# EAGLE library part 3PDT (library mb_switches)
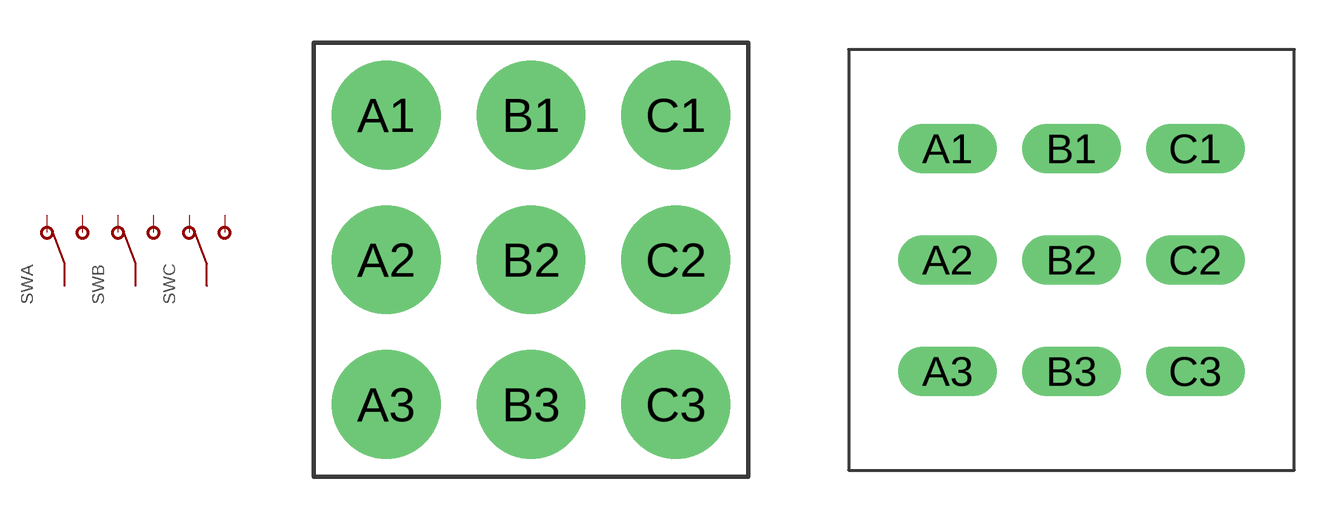
[diagram p1: symbol with the pads of 3PDT; footprints 3PDT, CHINABLUE]

Designator prefix SW; gates A=SPDT B=SPDT C=SPDT

## 3PDT  [3PDT]
A1  A:1  pas
A2  A:2  pas
A3  A:3  pas
B1  B:1  pas
B2  B:2  pas
B3  B:3  pas
C1  C:1  pas
C2  C:2  pas
C3  C:3  pas

## 3PDTBLUE  [CHINABLUE]
Pads as for 3PDT

## Footprint 3PDT (pad centres in mm)
drill 2.8 pad 2: A1 -5.08,5.08; A2 -5.08,0; A3 -5.08,-5.08; B1 0,5.08; B2 0,0; B3 0,-5.08; C1 5.08,5.08; C2 5.08,0; C3 5.08,-5.08

## Footprint CHINABLUE (pad centres in mm)
drill 1 pad 2 long: A1 -5,4.5; A2 -5,0; A3 -5,-4.5; B1 0,4.5; B2 0,0; B3 0,-4.5; C1 5,4.5; C2 5,0; C3 5,-4.5